# Altium footprint library Package_SO.PcbLib: 393 footprints (part 10 of 25)
Each footprint in its own frame and in the unit in brackets; x right, y up, seen from the top. Pads: shape width x height; smd on the part's side, far side on the other; paste and mask are expansions set on the pad; w line width, h text height; cw(c..) or ccw(c..) is an arc to the next point about the centre after c.
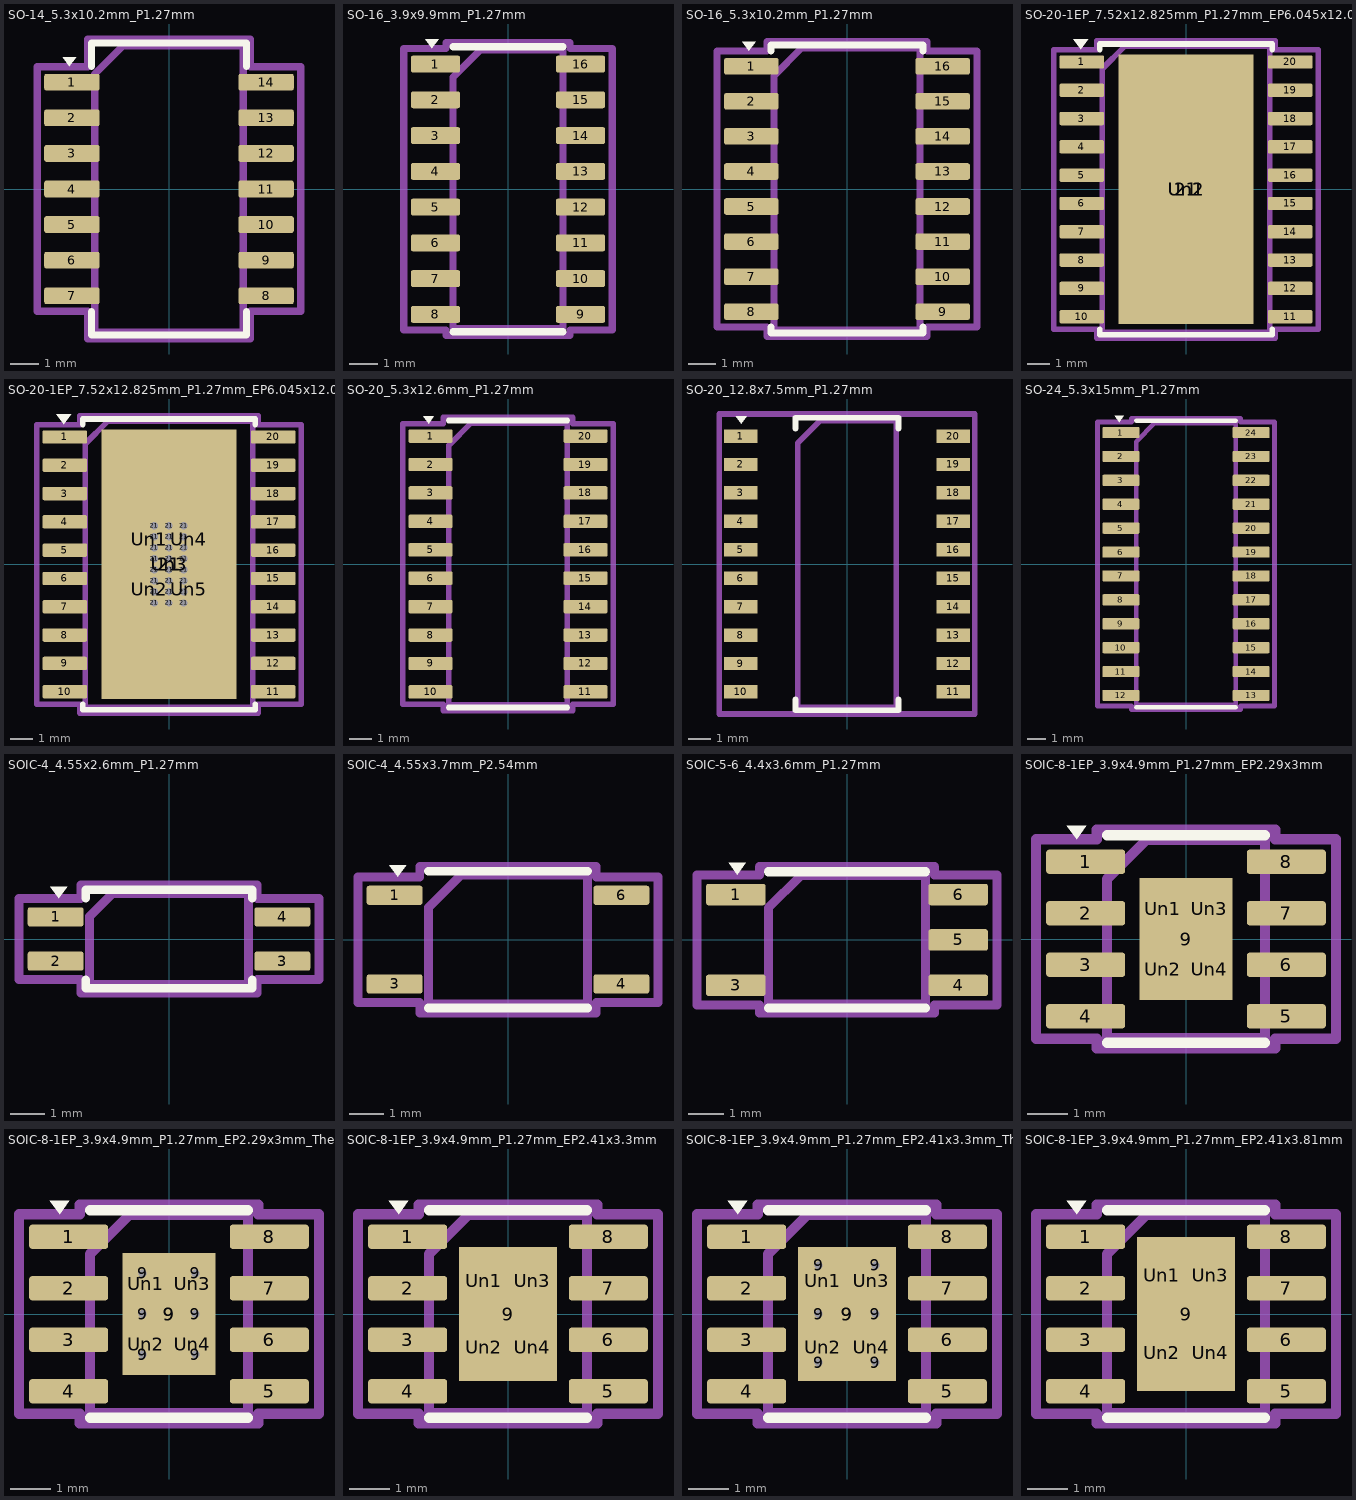
[diagram p9: the footprints below, top view; thin cyan lines are the x and y axes]

## SO-14_5.3x10.2mm_P1.27mm [mm]
pads (14):
  rrect25% 1.975x0.6 smd: 1(-3.463,3.81) 2(-3.463,2.54) 3(-3.463,1.27) 4(-3.463,0) 5(-3.463,-1.27) 6(-3.463,-2.54) 7(-3.463,-3.81) 8(3.463,-3.81) 9(3.463,-2.54) 10(3.463,-1.27) 11(3.463,0) 12(3.463,1.27) 13(3.463,2.54) 14(3.463,3.81)
F.SilkS:
  region: -3.55,4.37 -3.79,4.7 -3.31,4.7
  lines w0.254: -2.76,-4.37 -2.76,-5.21 0,-5.21 2.76,-5.21 2.76,-4.37 ; -2.76,4.37 -2.76,5.21 0,5.21 2.76,5.21 2.76,4.37
Top Assembly:
  lines w0.254: -2.65,-5.1 2.65,-5.1 2.65,5.1 -1.65,5.1 -2.65,4.1 -2.65,-5.1
  text "'.Designator'" at -4.047,-0.84 h1
Top Courtyard:
  lines w0.254: -4.7,-4.36 -2.9,-4.36 -2.9,-5.35 2.9,-5.35 2.9,-4.36 4.7,-4.36 4.7,4.36 2.9,4.36 2.9,5.35 -2.9,5.35 -2.9,4.36 -4.7,4.36 -4.7,-4.36
Top Designator:
  text ".Designator" at -7.618,-0.508 h1.52

## SO-16_3.9x9.9mm_P1.27mm [mm]
pads (16):
  rrect25% 1.75x0.6 smd: 1(-2.575,4.445) 2(-2.575,3.175) 3(-2.575,1.905) 4(-2.575,0.635) 5(-2.575,-0.635) 6(-2.575,-1.905) 7(-2.575,-3.175) 8(-2.575,-4.445) 9(2.575,-4.445) 10(2.575,-3.175) 11(2.575,-1.905) 12(2.575,-0.635) 13(2.575,0.635) 14(2.575,1.905) 15(2.575,3.175) 16(2.575,4.445)
F.SilkS:
  region: -2.7,5.005 -2.94,5.335 -2.46,5.335
  lines w0.254: -1.95,-5.06 0,-5.06 1.95,-5.06 ; -1.95,5.06 0,5.06 1.95,5.06
Top Assembly:
  lines w0.254: -1.95,-4.95 1.95,-4.95 1.95,4.95 -0.975,4.95 -1.95,3.975 -1.95,-4.95
  text "'.Designator'" at -3.969,-0.827 h0.98
Top Courtyard:
  lines w0.254: -3.7,-5 -2.2,-5 -2.2,-5.2 2.2,-5.2 2.2,-5 3.7,-5 3.7,5 2.2,5 2.2,5.2 -2.2,5.2 -2.2,5 -3.7,5 -3.7,-5
Top Designator:
  text ".Designator" at -7.763,-0.504 h1.52

## SO-16_5.3x10.2mm_P1.27mm [mm]
pads (16):
  rrect25% 1.975x0.6 smd: 1(-3.463,4.445) 2(-3.463,3.175) 3(-3.463,1.905) 4(-3.463,0.635) 5(-3.463,-0.635) 6(-3.463,-1.905) 7(-3.463,-3.175) 8(-3.463,-4.445) 9(3.463,-4.445) 10(3.463,-3.175) 11(3.463,-1.905) 12(3.463,-0.635) 13(3.463,0.635) 14(3.463,1.905) 15(3.463,3.175) 16(3.463,4.445)
F.SilkS:
  region: -3.55,5.005 -3.79,5.335 -3.31,5.335
  lines w0.254: -2.76,-5.005 -2.76,-5.21 0,-5.21 2.76,-5.21 2.76,-5.005 ; -2.76,5.005 -2.76,5.21 0,5.21 2.76,5.21 2.76,5.005
Top Assembly:
  lines w0.254: -2.65,-5.1 2.65,-5.1 2.65,5.1 -1.65,5.1 -2.65,4.1 -2.65,-5.1
  text "'.Designator'" at -4.047,-0.84 h1
Top Courtyard:
  lines w0.254: -4.7,-5 -2.9,-5 -2.9,-5.35 2.9,-5.35 2.9,-5 4.7,-5 4.7,5 2.9,5 2.9,5.35 -2.9,5.35 -2.9,5 -4.7,5 -4.7,-5
Top Designator:
  text ".Designator" at -7.618,-0.508 h1.52

## SO-20-1EP_7.52x12.825mm_P1.27mm_EP6.045x12.09mm_Mask3.56x4.47mm [mm]
pads (23):
  rrect25% 2x0.6 smd: 1(-4.675,5.715) 2(-4.675,4.445) 3(-4.675,3.175) 4(-4.675,1.905) 5(-4.675,0.635) 6(-4.675,-0.635) 7(-4.675,-1.905) 8(-4.675,-3.175) 9(-4.675,-4.445) 10(-4.675,-5.715) 11(4.675,-5.715) 12(4.675,-4.445) 13(4.675,-3.175) 14(4.675,-1.905) 15(4.675,-0.635) 16(4.675,0.635) 17(4.675,1.905) 18(4.675,3.175) 19(4.675,4.445) 20(4.675,5.715)
  rect 6.045x12.09 smd: 21(0,0)
  rrect9% 2.87x3.6 on Top Paste: Un1(0,0)
  rect 3.56x4.47 on Top Solder: Un2(0,0)
F.SilkS:
  region: -4.717,6.275 -5.058,6.745 -4.377,6.745
  lines w0.254: -3.87,-6.275 -3.87,-6.522 0,-6.522 3.87,-6.522 3.87,-6.275 ; -3.87,6.275 -3.87,6.522 0,6.522 3.87,6.522 3.87,6.275
Top Assembly:
  lines w0.254: -3.76,-6.412 3.76,-6.412 3.76,6.412 -2.76,6.412 -3.76,5.413 -3.76,-6.412
  text "'.Designator'" at -4.047,-0.84 h1
Top Courtyard:
  lines w0.254: -5.93,-6.27 -4.01,-6.27 -4.01,-6.67 4.01,-6.67 4.01,-6.27 5.93,-6.27 5.93,6.27 4.01,6.27 4.01,6.67 -4.01,6.67 -4.01,6.27 -5.93,6.27 -5.93,-6.27
Top Designator:
  text ".Designator" at -7.618,-0.508 h1.52

## SO-20-1EP_7.52x12.825mm_P1.27mm_EP6.045x12.09mm_Mask3.56x4.47mm_ThermalVias [mm]
pads (51):
  rrect25% 2x0.6 smd: 1(-4.675,5.715) 2(-4.675,4.445) 3(-4.675,3.175) 4(-4.675,1.905) 5(-4.675,0.635) 6(-4.675,-0.635) 7(-4.675,-1.905) 8(-4.675,-3.175) 9(-4.675,-4.445) 10(-4.675,-5.715) 11(4.675,-5.715) 12(4.675,-4.445) 13(4.675,-3.175) 14(4.675,-1.905) 15(4.675,-0.635) 16(4.675,0.635) 17(4.675,1.905) 18(4.675,3.175) 19(4.675,4.445) 20(4.675,5.715)
  round 0.49 hole 0.33: 21(-0.66,-1.733) 21(-0.66,-1.238) 21(-0.66,-0.743) 21(-0.66,-0.248) 21(-0.66,0.248) 21(-0.66,0.743) 21(-0.66,1.238) 21(-0.66,1.733) 21(0,-1.733) 21(0,-1.238) 21(0,-0.743) 21(0,-0.248) 21(0,0.248) 21(0,0.743) 21(0,1.238) 21(0,1.733) 21(0.66,-1.733) 21(0.66,-1.238) 21(0.66,-0.743) 21(0.66,-0.248) 21(0.66,0.248) 21(0.66,0.743) 21(0.66,1.238) 21(0.66,1.733)
  rect 6.045x12.09 smd: 21(0,0)
  rect 1.81x3.955 smd far side: 21(0,0)
  rrect16% 1.54x1.94 on Top Paste: Un1(-0.89,1.115) Un2(-0.89,-1.115) Un4(0.89,1.115) Un5(0.89,-1.115)
  rect 3.56x4.47 on Top Solder: Un3(0,0)
F.SilkS:
  region: -4.717,6.275 -5.058,6.745 -4.377,6.745
  lines w0.254: -3.87,-6.275 -3.87,-6.522 0,-6.522 3.87,-6.522 3.87,-6.275 ; -3.87,6.275 -3.87,6.522 0,6.522 3.87,6.522 3.87,6.275
Top Assembly:
  lines w0.254: -3.76,-6.412 3.76,-6.412 3.76,6.412 -2.76,6.412 -3.76,5.413 -3.76,-6.412
  text "'.Designator'" at -4.047,-0.84 h1
Top Courtyard:
  lines w0.254: -5.93,-6.27 -4.01,-6.27 -4.01,-6.67 4.01,-6.67 4.01,-6.27 5.93,-6.27 5.93,6.27 4.01,6.27 4.01,6.67 -4.01,6.67 -4.01,6.27 -5.93,6.27 -5.93,-6.27
Top Designator:
  text ".Designator" at -7.618,-0.508 h1.52

## SO-20_5.3x12.6mm_P1.27mm [mm]
pads (20):
  rrect25% 1.975x0.6 smd: 1(-3.463,5.715) 2(-3.463,4.445) 3(-3.463,3.175) 4(-3.463,1.905) 5(-3.463,0.635) 6(-3.463,-0.635) 7(-3.463,-1.905) 8(-3.463,-3.175) 9(-3.463,-4.445) 10(-3.463,-5.715) 11(3.463,-5.715) 12(3.463,-4.445) 13(3.463,-3.175) 14(3.463,-1.905) 15(3.463,-0.635) 16(3.463,0.635) 17(3.463,1.905) 18(3.463,3.175) 19(3.463,4.445) 20(3.463,5.715)
F.SilkS:
  region: -3.55,6.275 -3.79,6.605 -3.31,6.605
  lines w0.254: -2.65,-6.41 0,-6.41 2.65,-6.41 ; -2.65,6.41 0,6.41 2.65,6.41
Top Assembly:
  lines w0.254: -2.65,-6.3 2.65,-6.3 2.65,6.3 -1.65,6.3 -2.65,5.3 -2.65,-6.3
  text "'.Designator'" at -4.047,-0.84 h1
Top Courtyard:
  lines w0.254: -4.7,-6.27 -2.9,-6.27 -2.9,-6.55 2.9,-6.55 2.9,-6.27 4.7,-6.27 4.7,6.27 2.9,6.27 2.9,6.55 -2.9,6.55 -2.9,6.27 -4.7,6.27 -4.7,-6.27
Top Designator:
  text ".Designator" at -7.618,-0.508 h1.52

## SO-20_12.8x7.5mm_P1.27mm [mm]
pads (20):
  rect 1.5x0.6 smd: 1(-4.75,5.715) 2(-4.75,4.445) 3(-4.75,3.175) 4(-4.75,1.905) 5(-4.75,0.635) 6(-4.75,-0.635) 7(-4.75,-1.905) 8(-4.75,-3.175) 9(-4.75,-4.445) 10(-4.75,-5.715) 11(4.75,-5.715) 12(4.75,-4.445) 13(4.75,-3.175) 14(4.75,-1.905) 15(4.75,-0.635) 16(4.75,0.635) 17(4.75,1.905) 18(4.75,3.175) 19(4.75,4.445) 20(4.75,5.715)
F.SilkS:
  region: -4.725,6.275 -4.965,6.605 -4.485,6.605
  lines w0.254: -2.3,-6.05 -2.3,-6.53 2.3,-6.53 2.3,-6.05 ; -2.3,6.05 -2.3,6.53 2.3,6.53 2.3,6.05
Top Assembly:
  lines w0.254: -2.2,-6.4 2.2,-6.4 2.2,6.4 -1.2,6.4 -2.2,5.4 -2.2,-6.4
  text "'.Designator'" at -4.047,-0.84 h1
Top Courtyard:
  lines w0.254: -5.7,-6.7 5.7,-6.7 5.7,6.7 -5.7,6.7 -5.7,-6.7
Top Designator:
  text ".Designator" at -7.618,-0.508 h1.52

## SO-24_5.3x15mm_P1.27mm [mm]
pads (24):
  rrect25% 1.975x0.6 smd: 1(-3.463,6.985) 2(-3.463,5.715) 3(-3.463,4.445) 4(-3.463,3.175) 5(-3.463,1.905) 6(-3.463,0.635) 7(-3.463,-0.635) 8(-3.463,-1.905) 9(-3.463,-3.175) 10(-3.463,-4.445) 11(-3.463,-5.715) 12(-3.463,-6.985) 13(3.463,-6.985) 14(3.463,-5.715) 15(3.463,-4.445) 16(3.463,-3.175) 17(3.463,-1.905) 18(3.463,-0.635) 19(3.463,0.635) 20(3.463,1.905) 21(3.463,3.175) 22(3.463,4.445) 23(3.463,5.715) 24(3.463,6.985)
F.SilkS:
  region: -3.55,7.545 -3.79,7.875 -3.31,7.875
  lines w0.254: -2.65,-7.61 0,-7.61 2.65,-7.61 ; -2.65,7.61 0,7.61 2.65,7.61
Top Assembly:
  lines w0.254: -2.65,-7.5 2.65,-7.5 2.65,7.5 -1.65,7.5 -2.65,6.5 -2.65,-7.5
  text "'.Designator'" at -4.047,-0.84 h1
Top Courtyard:
  lines w0.254: -4.7,-7.54 -2.9,-7.54 -2.9,-7.75 2.9,-7.75 2.9,-7.54 4.7,-7.54 4.7,7.54 2.9,7.54 2.9,7.75 -2.9,7.75 -2.9,7.54 -4.7,7.54 -4.7,-7.54
Top Designator:
  text ".Designator" at -7.618,-0.508 h1.52

## SOIC-4_4.55x2.6mm_P1.27mm [mm]
pads (4):
  rrect25% 1.6x0.55 smd: 1(-3.25,0.635) 2(-3.25,-0.635) 3(3.25,-0.635) 4(3.25,0.635)
F.SilkS:
  region: -3.163,1.17 -3.403,1.5 -2.923,1.5
  lines w0.254: -2.385,-1.17 -2.385,-1.41 0,-1.41 2.385,-1.41 2.385,-1.17 ; -2.385,1.17 -2.385,1.41 0,1.41 2.385,1.41 2.385,1.17
Top Assembly:
  lines w0.254: -2.275,-1.3 2.275,-1.3 2.275,1.3 -1.625,1.3 -2.275,0.65 -2.275,-1.3
  text "'.Designator'" at -4.047,-0.84 h1
Top Courtyard:
  lines w0.254: -4.3,-1.16 -2.53,-1.16 -2.53,-1.55 2.53,-1.55 2.53,-1.16 4.3,-1.16 4.3,1.16 2.53,1.16 2.53,1.55 -2.53,1.55 -2.53,1.16 -4.3,1.16 -4.3,-1.16
Top Designator:
  text ".Designator" at -7.618,-0.508 h1.52

## SOIC-4_4.55x3.7mm_P2.54mm [mm]
pads (4):
  rrect25% 1.6x0.55 smd: 1(-3.25,1.27) 3(-3.25,-1.27) 4(3.25,-1.27) 6(3.25,1.27)
F.SilkS:
  region: -3.163,1.805 -3.403,2.135 -2.923,2.135
  lines w0.254: -2.275,-1.96 0,-1.96 2.275,-1.96 ; -2.275,1.96 0,1.96 2.275,1.96
Top Assembly:
  lines w0.254: -2.275,-1.85 2.275,-1.85 2.275,1.85 -1.35,1.85 -2.275,0.925 -2.275,-1.85
  text "'.Designator'" at -4.047,-0.84 h1
Top Courtyard:
  lines w0.254: -4.3,-1.8 -2.53,-1.8 -2.53,-2.1 2.53,-2.1 2.53,-1.8 4.3,-1.8 4.3,1.8 2.53,1.8 2.53,2.1 -2.53,2.1 -2.53,1.8 -4.3,1.8 -4.3,-1.8
Top Designator:
  text ".Designator" at -7.618,-0.508 h1.52

## SOIC-5-6_4.4x3.6mm_P1.27mm [mm]
pads (5):
  rrect25% 1.675x0.6 smd: 1(-3.113,1.27) 3(-3.113,-1.27) 4(3.113,-1.27) 5(3.113,0) 6(3.113,1.27)
F.SilkS:
  region: -3.075,1.83 -3.315,2.16 -2.835,2.16
  lines w0.254: -2.2,-1.91 0,-1.91 2.2,-1.91 ; -2.2,1.91 0,1.91 2.2,1.91
Top Assembly:
  lines w0.254: -2.2,-1.8 2.2,-1.8 2.2,1.8 -1.3,1.8 -2.2,0.9 -2.2,-1.8
  text "'.Designator'" at -4.047,-0.84 h1
Top Courtyard:
  lines w0.254: -4.2,-1.82 -2.45,-1.82 -2.45,-2.05 2.45,-2.05 2.45,-1.82 4.2,-1.82 4.2,1.82 2.45,1.82 2.45,2.05 -2.45,2.05 -2.45,1.82 -4.2,1.82 -4.2,-1.82
Top Designator:
  text ".Designator" at -7.618,-0.508 h1.52

## SOIC-8-1EP_3.9x4.9mm_P1.27mm_EP2.29x3mm [mm]
pads (13):
  rrect25% 1.95x0.6 smd: 1(-2.475,1.905) 2(-2.475,0.635) 3(-2.475,-0.635) 4(-2.475,-1.905) 5(2.475,-1.905) 6(2.475,-0.635) 7(2.475,0.635) 8(2.475,1.905)
  rect 2.29x3 smd: 9(0,0)
  rrect25% 0.92x1.21 on Top Paste: Un1(-0.57,0.75) Un2(-0.57,-0.75) Un3(0.57,0.75) Un4(0.57,-0.75)
F.SilkS:
  region: -2.7,2.465 -2.94,2.795 -2.46,2.795
  lines w0.254: -1.95,-2.56 0,-2.56 1.95,-2.56 ; -1.95,2.56 0,2.56 1.95,2.56
Top Assembly:
  lines w0.254: -1.95,-2.45 1.95,-2.45 1.95,2.45 -0.975,2.45 -1.95,1.475 -1.95,-2.45
  text "'.Designator'" at -3.969,-0.827 h0.98
Top Courtyard:
  lines w0.254: -3.7,-2.46 -2.2,-2.46 -2.2,-2.7 2.2,-2.7 2.2,-2.46 3.7,-2.46 3.7,2.46 2.2,2.46 2.2,2.7 -2.2,2.7 -2.2,2.46 -3.7,2.46 -3.7,-2.46
Top Designator:
  text ".Designator" at -7.763,-0.508 h1.52

## SOIC-8-1EP_3.9x4.9mm_P1.27mm_EP2.29x3mm_ThermalVias [mm]
pads (20):
  rrect25% 1.95x0.6 smd: 1(-2.475,1.905) 2(-2.475,0.635) 3(-2.475,-0.635) 4(-2.475,-1.905) 5(2.475,-1.905) 6(2.475,-0.635) 7(2.475,0.635) 8(2.475,1.905)
  round 0.5 hole 0.2: 9(-0.65,-1) 9(-0.65,0) 9(-0.65,1) 9(0.65,-1) 9(0.65,0) 9(0.65,1)
  rect 2.29x3 smd: 9(0,0)
  rect 1.8x2.5 smd far side: 9(0,0)
  rrect25% 0.96x1.25 on Top Paste: Un1(-0.57,0.75) Un2(-0.57,-0.75) Un3(0.57,0.75) Un4(0.57,-0.75)
F.SilkS:
  region: -2.7,2.465 -2.94,2.795 -2.46,2.795
  lines w0.254: -1.95,-2.56 0,-2.56 1.95,-2.56 ; -1.95,2.56 0,2.56 1.95,2.56
Top Assembly:
  lines w0.254: -1.95,-2.45 1.95,-2.45 1.95,2.45 -0.975,2.45 -1.95,1.475 -1.95,-2.45
  text "'.Designator'" at -3.969,-0.827 h0.98
Top Courtyard:
  lines w0.254: -3.7,-2.46 -2.2,-2.46 -2.2,-2.7 2.2,-2.7 2.2,-2.46 3.7,-2.46 3.7,2.46 2.2,2.46 2.2,2.7 -2.2,2.7 -2.2,2.46 -3.7,2.46 -3.7,-2.46
Top Designator:
  text ".Designator" at -7.763,-0.508 h1.52

## SOIC-8-1EP_3.9x4.9mm_P1.27mm_EP2.41x3.3mm [mm]
pads (13):
  rrect25% 1.95x0.6 smd: 1(-2.475,1.905) 2(-2.475,0.635) 3(-2.475,-0.635) 4(-2.475,-1.905) 5(2.475,-1.905) 6(2.475,-0.635) 7(2.475,0.635) 8(2.475,1.905)
  rect 2.41x3.3 smd: 9(0,0)
  rrect25% 0.97x1.33 on Top Paste: Un1(-0.6,0.825) Un2(-0.6,-0.825) Un3(0.6,0.825) Un4(0.6,-0.825)
F.SilkS:
  region: -2.7,2.465 -2.94,2.795 -2.46,2.795
  lines w0.254: -1.95,-2.56 0,-2.56 1.95,-2.56 ; -1.95,2.56 0,2.56 1.95,2.56
Top Assembly:
  lines w0.254: -1.95,-2.45 1.95,-2.45 1.95,2.45 -0.975,2.45 -1.95,1.475 -1.95,-2.45
  text "'.Designator'" at -3.969,-0.827 h0.98
Top Courtyard:
  lines w0.254: -3.7,-2.46 -2.2,-2.46 -2.2,-2.7 2.2,-2.7 2.2,-2.46 3.7,-2.46 3.7,2.46 2.2,2.46 2.2,2.7 -2.2,2.7 -2.2,2.46 -3.7,2.46 -3.7,-2.46
Top Designator:
  text ".Designator" at -7.763,-0.508 h1.52

## SOIC-8-1EP_3.9x4.9mm_P1.27mm_EP2.41x3.3mm_ThermalVias [mm]
pads (20):
  rrect25% 1.95x0.6 smd: 1(-2.475,1.905) 2(-2.475,0.635) 3(-2.475,-0.635) 4(-2.475,-1.905) 5(2.475,-1.905) 6(2.475,-0.635) 7(2.475,0.635) 8(2.475,1.905)
  round 0.5 hole 0.2: 9(-0.7,-1.2) 9(-0.7,0) 9(-0.7,1.2) 9(0.7,-1.2) 9(0.7,0) 9(0.7,1.2)
  rect 2.41x3.3 smd: 9(0,0)
  rect 1.9x2.9 smd far side: 9(0,0)
  rrect25% 1.01x1.38 on Top Paste: Un1(-0.6,0.825) Un2(-0.6,-0.825) Un3(0.6,0.825) Un4(0.6,-0.825)
F.SilkS:
  region: -2.7,2.465 -2.94,2.795 -2.46,2.795
  lines w0.254: -1.95,-2.56 0,-2.56 1.95,-2.56 ; -1.95,2.56 0,2.56 1.95,2.56
Top Assembly:
  lines w0.254: -1.95,-2.45 1.95,-2.45 1.95,2.45 -0.975,2.45 -1.95,1.475 -1.95,-2.45
  text "'.Designator'" at -3.969,-0.827 h0.98
Top Courtyard:
  lines w0.254: -3.7,-2.46 -2.2,-2.46 -2.2,-2.7 2.2,-2.7 2.2,-2.46 3.7,-2.46 3.7,2.46 2.2,2.46 2.2,2.7 -2.2,2.7 -2.2,2.46 -3.7,2.46 -3.7,-2.46
Top Designator:
  text ".Designator" at -7.763,-0.508 h1.52

## SOIC-8-1EP_3.9x4.9mm_P1.27mm_EP2.41x3.81mm [mm]
pads (13):
  rrect25% 1.95x0.6 smd: 1(-2.475,1.905) 2(-2.475,0.635) 3(-2.475,-0.635) 4(-2.475,-1.905) 5(2.475,-1.905) 6(2.475,-0.635) 7(2.475,0.635) 8(2.475,1.905)
  rect 2.41x3.81 smd: 9(0,0)
  rrect25% 0.97x1.54 on Top Paste: Un1(-0.6,0.95) Un2(-0.6,-0.95) Un3(0.6,0.95) Un4(0.6,-0.95)
F.SilkS:
  region: -2.7,2.465 -2.94,2.795 -2.46,2.795
  lines w0.254: -1.95,-2.56 0,-2.56 1.95,-2.56 ; -1.95,2.56 0,2.56 1.95,2.56
Top Assembly:
  lines w0.254: -1.95,-2.45 1.95,-2.45 1.95,2.45 -0.975,2.45 -1.95,1.475 -1.95,-2.45
  text "'.Designator'" at -3.969,-0.827 h0.98
Top Courtyard:
  lines w0.254: -3.7,-2.46 -2.2,-2.46 -2.2,-2.7 2.2,-2.7 2.2,-2.46 3.7,-2.46 3.7,2.46 2.2,2.46 2.2,2.7 -2.2,2.7 -2.2,2.46 -3.7,2.46 -3.7,-2.46
Top Designator:
  text ".Designator" at -7.763,-0.508 h1.52